# Altium footprint library PcbLib1.PcbLib: 56 footprints (part 4 of 4)
Each footprint in its own frame and in the unit in brackets; x right, y up, seen from the top. Pads: shape width x height; smd on the part's side, far side on the other; paste and mask are expansions set on the pad; w line width, h text height; cw(c..) or ccw(c..) is an arc to the next point about the centre after c.
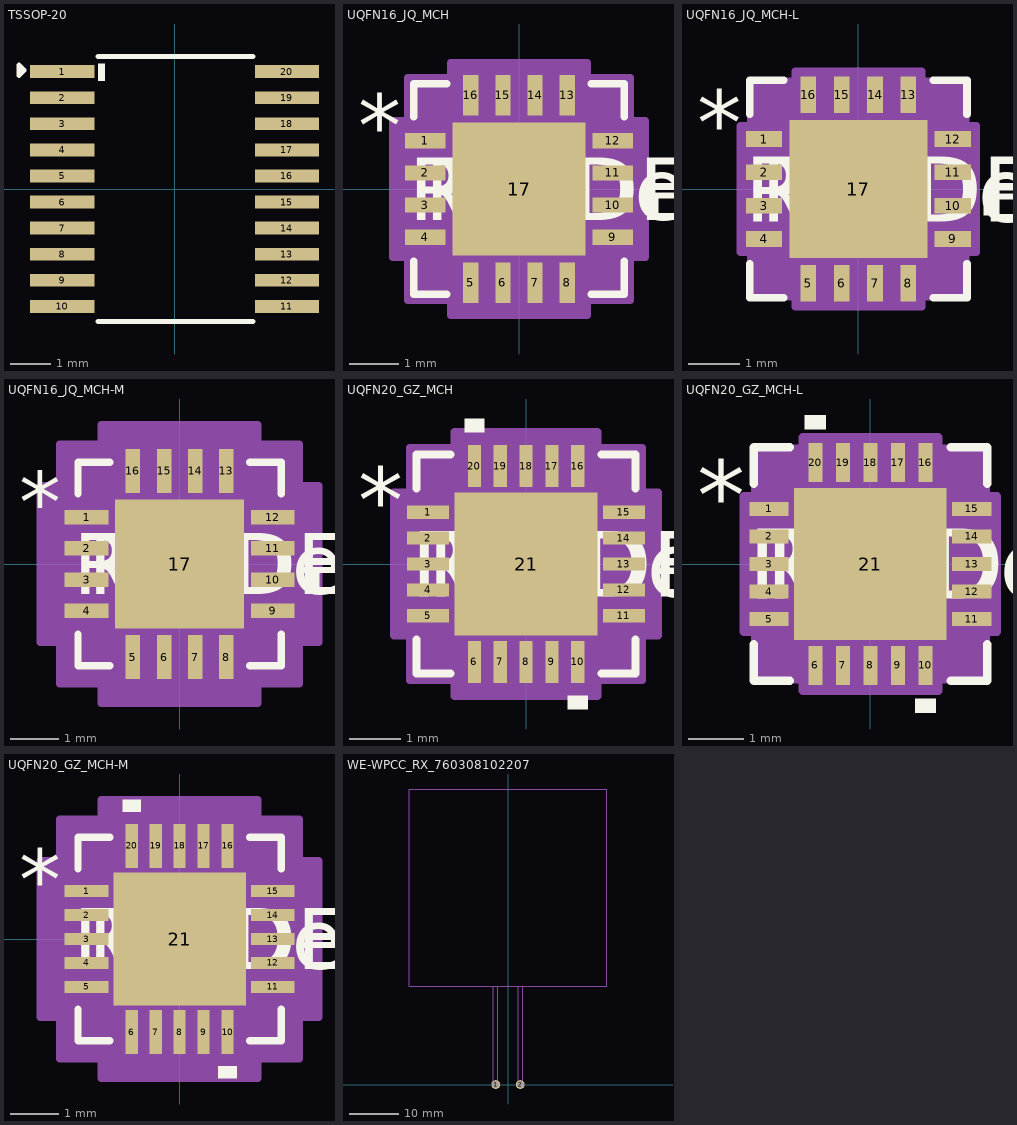
[diagram p3: the footprints below, top view; thin cyan lines are the x and y axes]

## TSSOP-20 [mm]
pads (20):
  rect 1.6x0.32 smd: 1(-2.8,2.925) 2(-2.8,2.275) 3(-2.8,1.625) 4(-2.8,0.975) 5(-2.8,0.325) 6(-2.8,-0.325) 7(-2.8,-0.975) 8(-2.8,-1.625) 9(-2.8,-2.275) 10(-2.8,-2.925) 11(2.8,-2.925) 12(2.8,-2.275) 13(2.8,-1.625) 14(2.8,-0.975) 15(2.8,-0.325) 16(2.8,0.325) 17(2.8,0.975) 18(2.8,1.625) 19(2.8,2.275) 20(2.8,2.925)
Top Overlay:
  rectangle: -1.907,2.692 -1.729,3.124
  lines w0.127: -1.907,-3.302 1.954,-3.302 ; -1.907,3.302 1.954,3.302 ; -3.875,2.832 -3.875,3.086 -3.748,2.959 -3.875,2.832
3D body "TXS0108EPWR.STEP": height 1.2, standoff 0, extent -3.2,-3.25 3.2,3.25

## UQFN16_JQ_MCH [mil]
pads (17):
  rect 32x12 smd paste+0 mask+0: 1(-74.5,38.39) 2(-74.5,12.8) 3(-74.5,-12.8) 4(-74.5,-38.39) 9(74.5,-38.39) 10(74.5,-12.8) 11(74.5,12.8) 12(74.5,38.39)
  rect 12x32 smd paste+0 mask+0: 5(-38.39,-74.5) 6(-12.8,-74.5) 7(12.8,-74.5) 8(38.39,-74.5) 13(38.39,74.5) 14(12.8,74.5) 15(-12.8,74.5) 16(-38.39,74.5)
  rect 106x106 smd paste-53 mask+0: 17(0,0)
Top Overlay:
  region: 100.5,-5.3 110.5,-5.3 110.5,-20.3 100.5,-20.3
  lines w6: -83.5,-57.49 -83.5,-83.5 -57.49,-83.5 ; -83.5,57.49 -83.5,83.5 -57.49,83.5 ; 57.49,-83.5 83.5,-83.5 83.5,-57.49 ; 57.49,83.5 83.5,83.5 83.5,57.49
  text "REFDES" at -87.5,-25 h50
  text "RefDes" at -75,-25 h50
  text "*" at -128,26.18 h50
Top Paste:
  region: 49.06,-3.94 3.94,-3.94 3.94,-49.06 49.06,-49.06
  region: 49.06,49.06 3.94,49.06 3.94,3.94 49.06,3.94
  region: -3.94,-3.94 -49.06,-3.94 -49.06,-49.06 -3.94,-49.06
  region: -3.94,49.06 -49.06,49.06 -49.06,3.94 -3.94,3.94
Mechanical 13:
  lines w1: -78.5,28.5 -28.5,78.5 ; -78.5,-78.5 -78.5,78.5 78.5,78.5 78.5,-78.5 -78.5,-78.5 ; -78.5,-45.39 -78.5,-31.39 -78.5,-45.39 ; -78.5,-19.8 -78.5,-5.8 -78.5,-19.8 ; -78.5,5.8 -78.5,19.8 -78.5,5.8 ; -78.5,31.39 -78.5,45.39 -78.5,31.39 ; -45.39,-78.5 -31.39,-78.5 -45.39,-78.5 ; -45.39,78.5 -31.39,78.5 -45.39,78.5 ; -19.8,-78.5 -5.8,-78.5 -19.8,-78.5 ; -19.8,78.5 -5.8,78.5 -19.8,78.5 ; 5.8,-78.5 19.8,-78.5 5.8,-78.5 ; 5.8,78.5 19.8,78.5 5.8,78.5 ; 31.39,-78.5 45.39,-78.5 31.39,-78.5 ; 31.39,78.5 45.39,78.5 31.39,78.5 ; 78.5,-45.39 78.5,-31.39 78.5,-45.39 ; 78.5,-19.8 78.5,-5.8 78.5,-19.8 ; 78.5,5.8 78.5,19.8 78.5,5.8 ; 78.5,31.39 78.5,45.39 78.5,31.39
  text "RefDes2" at -87.5,-25 h50
  text "*" at -71,26.18 h50
Mechanical 15:
  region: -54.39,-88.5 -88.5,-88.5 -88.5,-54.39 -100.5,-54.39 -100.5,54.39 -88.5,54.39 -88.5,88.5 -54.39,88.5 -54.39,100.5 54.39,100.5 54.39,88.5 88.5,88.5 88.5,54.39 100.5,54.39 100.5,-54.39 88.5,-54.39 88.5,-88.5 54.39,-88.5 54.39,-100.5 -54.39,-100.5
  lines w6: -100.5,-54.39 -100.5,54.39 -88.5,54.39 -88.5,88.5 -54.39,88.5 -54.39,100.5 54.39,100.5 54.39,88.5 88.5,88.5 88.5,54.39 100.5,54.39 100.5,-54.39 88.5,-54.39 88.5,-88.5 54.39,-88.5 54.39,-100.5 -54.39,-100.5 -54.39,-88.5 -88.5,-88.5 -88.5,-54.39 -100.5,-54.39
3D body "UQFN16_JQ_MCH.step": height 22.09, standoff 0, extent -78.5,-78.5 78.5,78.5

## UQFN16_JQ_MCH-L [mil]
pads (17):
  rect 28x12 smd paste+0 mask+0: 1(-72.5,38.39) 2(-72.5,12.8) 3(-72.5,-12.8) 4(-72.5,-38.39) 9(72.5,-38.39) 10(72.5,-12.8) 11(72.5,12.8) 12(72.5,38.39)
  rect 12x28 smd paste+0 mask+0: 5(-38.39,-72.5) 6(-12.8,-72.5) 7(12.8,-72.5) 8(38.39,-72.5) 13(38.39,72.5) 14(12.8,72.5) 15(-12.8,72.5) 16(-38.39,72.5)
  rect 106x106 smd paste-53 mask+0: 17(0,0)
Top Overlay:
  region: 96.5,-5.3 106.5,-5.3 106.5,-20.3 96.5,-20.3
  lines w6: -83.5,-57.49 -83.5,-83.5 -57.49,-83.5 ; -83.5,57.49 -83.5,83.5 -57.49,83.5 ; 57.49,-83.5 83.5,-83.5 83.5,-57.49 ; 57.49,83.5 83.5,83.5 83.5,57.49
  text "*" at -124,26.18 h50
  text "RefDes" at -75,-25 h50
  text "REFDES" at -87.5,-25 h50
Top Paste:
  region: -3.94,49.06 -49.06,49.06 -49.06,3.94 -3.94,3.94
  region: -3.94,-3.94 -49.06,-3.94 -49.06,-49.06 -3.94,-49.06
  region: 49.06,49.06 3.94,49.06 3.94,3.94 49.06,3.94
  region: 49.06,-3.94 3.94,-3.94 3.94,-49.06 49.06,-49.06
Mechanical 13:
  lines w1: -78.5,28.5 -28.5,78.5 ; -78.5,-78.5 78.5,-78.5 78.5,78.5 -78.5,78.5 -78.5,-78.5 ; -78.5,-45.39 -78.5,-31.39 -78.5,-45.39 ; -78.5,-19.8 -78.5,-5.8 -78.5,-19.8 ; -78.5,5.8 -78.5,19.8 -78.5,5.8 ; -78.5,31.39 -78.5,45.39 -78.5,31.39 ; -45.39,-78.5 -31.39,-78.5 -45.39,-78.5 ; -45.39,78.5 -31.39,78.5 -45.39,78.5 ; -19.8,-78.5 -5.8,-78.5 -19.8,-78.5 ; -19.8,78.5 -5.8,78.5 -19.8,78.5 ; 5.8,-78.5 19.8,-78.5 5.8,-78.5 ; 5.8,78.5 19.8,78.5 5.8,78.5 ; 31.39,-78.5 45.39,-78.5 31.39,-78.5 ; 31.39,78.5 45.39,78.5 31.39,78.5 ; 78.5,-45.39 78.5,-31.39 78.5,-45.39 ; 78.5,-19.8 78.5,-5.8 78.5,-19.8 ; 78.5,5.8 78.5,19.8 78.5,5.8 ; 78.5,31.39 78.5,45.39 78.5,31.39
  text "*" at -71,26.18 h50
  text "RefDes2" at -87.5,-25 h50
Mechanical 15:
  region: -48.39,-82.5 -82.5,-82.5 -82.5,-48.39 -90.5,-48.39 -90.5,48.39 -82.5,48.39 -82.5,82.5 -48.39,82.5 -48.39,90.5 48.39,90.5 48.39,82.5 82.5,82.5 82.5,48.39 90.5,48.39 90.5,-48.39 82.5,-48.39 82.5,-82.5 48.39,-82.5 48.39,-90.5 -48.39,-90.5
  lines w6: -90.5,-48.39 -82.5,-48.39 -82.5,-82.5 -48.39,-82.5 -48.39,-90.5 48.39,-90.5 48.39,-82.5 82.5,-82.5 82.5,-48.39 90.5,-48.39 90.5,48.39 82.5,48.39 82.5,82.5 48.39,82.5 48.39,90.5 -48.39,90.5 -48.39,82.5 -82.5,82.5 -82.5,48.39 -90.5,48.39 -90.5,-48.39
3D body "UQFN16_JQ_MCH.step": height 22.09, standoff 0, extent -78.5,-78.5 78.5,78.5
3D body "UQFN16_JQ_MCH.step": height 22.09, standoff 0, extent -78.5,-78.5 78.5,78.5

## UQFN16_JQ_MCH-M [mil]
pads (17):
  rect 36x12 smd paste+0 mask+0: 1(-76.5,38.39) 2(-76.5,12.8) 3(-76.5,-12.8) 4(-76.5,-38.39) 9(76.5,-38.39) 10(76.5,-12.8) 11(76.5,12.8) 12(76.5,38.39)
  rect 12x36 smd paste+0 mask+0: 5(-38.39,-76.5) 6(-12.8,-76.5) 7(12.8,-76.5) 8(38.39,-76.5) 13(38.39,76.5) 14(12.8,76.5) 15(-12.8,76.5) 16(-38.39,76.5)
  rect 106x106 smd paste-53 mask+0: 17(0,0)
Top Overlay:
  region: 104.5,-5.3 114.5,-5.3 114.5,-20.3 104.5,-20.3
  lines w6: -83.5,-57.49 -83.5,-83.5 -57.49,-83.5 ; -83.5,57.49 -83.5,83.5 -57.49,83.5 ; 57.49,-83.5 83.5,-83.5 83.5,-57.49 ; 57.49,83.5 83.5,83.5 83.5,57.49
  text "*" at -132,26.18 h50
  text "RefDes" at -75,-25 h50
  text "REFDES" at -87.5,-25 h50
Top Paste:
  region: -3.94,49.06 -49.06,49.06 -49.06,3.94 -3.94,3.94
  region: -3.94,-3.94 -49.06,-3.94 -49.06,-49.06 -3.94,-49.06
  region: 49.06,49.06 3.94,49.06 3.94,3.94 49.06,3.94
  region: 49.06,-3.94 3.94,-3.94 3.94,-49.06 49.06,-49.06
Mechanical 13:
  lines w1: -78.5,28.5 -28.5,78.5 ; -78.5,-78.5 78.5,-78.5 78.5,78.5 -78.5,78.5 -78.5,-78.5 ; -78.5,-45.39 -78.5,-31.39 -78.5,-45.39 ; -78.5,-19.8 -78.5,-5.8 -78.5,-19.8 ; -78.5,5.8 -78.5,19.8 -78.5,5.8 ; -78.5,31.39 -78.5,45.39 -78.5,31.39 ; -45.39,-78.5 -31.39,-78.5 -45.39,-78.5 ; -45.39,78.5 -31.39,78.5 -45.39,78.5 ; -19.8,-78.5 -5.8,-78.5 -19.8,-78.5 ; -19.8,78.5 -5.8,78.5 -19.8,78.5 ; 5.8,-78.5 19.8,-78.5 5.8,-78.5 ; 5.8,78.5 19.8,78.5 5.8,78.5 ; 31.39,-78.5 45.39,-78.5 31.39,-78.5 ; 31.39,78.5 45.39,78.5 31.39,78.5 ; 78.5,-45.39 78.5,-31.39 78.5,-45.39 ; 78.5,-19.8 78.5,-5.8 78.5,-19.8 ; 78.5,5.8 78.5,19.8 78.5,5.8 ; 78.5,31.39 78.5,45.39 78.5,31.39
  text "*" at -71,26.18 h50
  text "RefDes2" at -87.5,-25 h50
Mechanical 15:
  region: -64.39,-98.5 -98.5,-98.5 -98.5,-64.39 -114.5,-64.39 -114.5,64.39 -98.5,64.39 -98.5,98.5 -64.39,98.5 -64.39,114.5 64.39,114.5 64.39,98.5 98.5,98.5 98.5,64.39 114.5,64.39 114.5,-64.39 98.5,-64.39 98.5,-98.5 64.39,-98.5 64.39,-114.5 -64.39,-114.5
  lines w6: -114.5,-64.39 -98.5,-64.39 -98.5,-98.5 -64.39,-98.5 -64.39,-114.5 64.39,-114.5 64.39,-98.5 98.5,-98.5 98.5,-64.39 114.5,-64.39 114.5,64.39 98.5,64.39 98.5,98.5 64.39,98.5 64.39,114.5 -64.39,114.5 -64.39,98.5 -98.5,98.5 -98.5,64.39 -114.5,64.39 -114.5,-64.39
3D body "UQFN16_JQ_MCH.step": height 22.09, standoff 0, extent -78.5,-78.5 78.5,78.5

## UQFN20_GZ_MCH [mil]
pads (21):
  rect 32x10 smd paste+0 mask+0: 1(-74.5,39.37) 2(-74.5,19.68) 3(-74.5,0) 4(-74.5,-19.68) 5(-74.5,-39.37) 11(74.5,-39.37) 12(74.5,-19.68) 13(74.5,0) 14(74.5,19.68) 15(74.5,39.37)
  rect 10x32 smd paste+0 mask+0: 6(-39.37,-74.5) 7(-19.68,-74.5) 8(0,-74.5) 9(19.68,-74.5) 10(39.37,-74.5) 16(39.37,74.5) 17(19.68,74.5) 18(0,74.5) 19(-19.68,74.5) 20(-39.37,74.5)
  rect 109x109 smd paste-54.5 mask+0: 21(0,0)
Top Overlay:
  region: -31.87,100.5 -46.87,100.5 -46.87,110.5 -31.87,110.5
  region: 46.87,-100.5 31.87,-100.5 31.87,-110.5 46.87,-110.5
  lines w6: -83.5,-57.47 -83.5,-83.5 -57.47,-83.5 ; -83.5,57.47 -83.5,83.5 -57.47,83.5 ; 57.47,-83.5 83.5,-83.5 83.5,-57.47 ; 57.47,83.5 83.5,83.5 83.5,57.47
  text "REFDES" at -87.5,-25 h50
  text "RefDes" at -75,-25 h50
  text "*" at -128,24.21 h50
Top Paste:
  region: 50.56,-3.94 3.94,-3.94 3.94,-50.56 50.56,-50.56
  region: 50.56,50.56 3.94,50.56 3.94,3.94 50.56,3.94
  region: -3.94,-3.94 -50.56,-3.94 -50.56,-50.56 -3.94,-50.56
  region: -3.94,50.56 -50.56,50.56 -50.56,3.94 -3.94,3.94
Mechanical 13:
  lines w1: -78.5,28.5 -28.5,78.5 ; -78.5,-78.5 -78.5,78.5 78.5,78.5 78.5,-78.5 -78.5,-78.5 ; -78.5,-45.37 -78.5,-33.37 -78.5,-45.37 ; -78.5,-25.68 -78.5,-13.69 -78.5,-25.68 ; -78.5,-6 -78.5,6 -78.5,-6 ; -78.5,13.69 -78.5,25.68 -78.5,13.69 ; -78.5,33.37 -78.5,45.37 -78.5,33.37 ; -45.37,-78.5 -33.37,-78.5 -45.37,-78.5 ; -45.37,78.5 -33.37,78.5 -45.37,78.5 ; -25.68,-78.5 -13.69,-78.5 -25.68,-78.5 ; -25.68,78.5 -13.69,78.5 -25.68,78.5 ; -6,-78.5 6,-78.5 -6,-78.5 ; -6,78.5 6,78.5 -6,78.5 ; 13.69,-78.5 25.68,-78.5 13.69,-78.5 ; 13.69,78.5 25.68,78.5 13.69,78.5 ; 33.37,-78.5 45.37,-78.5 33.37,-78.5 ; 33.37,78.5 45.37,78.5 33.37,78.5 ; 78.5,-45.37 78.5,-33.37 78.5,-45.37 ; 78.5,-25.68 78.5,-13.69 78.5,-25.68 ; 78.5,-6 78.5,6 78.5,-6 ; 78.5,13.69 78.5,25.68 78.5,13.69 ; 78.5,33.37 78.5,45.37 78.5,33.37
  text "RefDes2" at -87.5,-25 h50
  text "*" at -71,24.21 h50
Mechanical 15:
  region: -54.37,-88.5 -88.5,-88.5 -88.5,-54.37 -100.5,-54.37 -100.5,54.37 -88.5,54.37 -88.5,88.5 -54.37,88.5 -54.37,100.5 54.37,100.5 54.37,88.5 88.5,88.5 88.5,54.37 100.5,54.37 100.5,-54.37 88.5,-54.37 88.5,-88.5 54.37,-88.5 54.37,-100.5 -54.37,-100.5
  lines w6: -100.5,-54.37 -100.5,54.37 -88.5,54.37 -88.5,88.5 -54.37,88.5 -54.37,100.5 54.37,100.5 54.37,88.5 88.5,88.5 88.5,54.37 100.5,54.37 100.5,-54.37 88.5,-54.37 88.5,-88.5 54.37,-88.5 54.37,-100.5 -54.37,-100.5 -54.37,-88.5 -88.5,-88.5 -88.5,-54.37 -100.5,-54.37
3D body "UQFN20_GZ_MCH.step": height 22.09, standoff 0, extent -78.5,-78.5 78.5,78.5

## UQFN20_GZ_MCH-L [mil]
pads (21):
  rect 28x10 smd paste+0 mask+0: 1(-72.5,39.37) 2(-72.5,19.68) 3(-72.5,0) 4(-72.5,-19.68) 5(-72.5,-39.37) 11(72.5,-39.37) 12(72.5,-19.68) 13(72.5,0) 14(72.5,19.68) 15(72.5,39.37)
  rect 10x28 smd paste+0 mask+0: 6(-39.37,-72.5) 7(-19.68,-72.5) 8(0,-72.5) 9(19.68,-72.5) 10(39.37,-72.5) 16(39.37,72.5) 17(19.68,72.5) 18(0,72.5) 19(-19.68,72.5) 20(-39.37,72.5)
  rect 109x109 smd paste-54.5 mask+0: 21(0,0)
Top Overlay:
  region: 46.87,-96.5 31.87,-96.5 31.87,-106.5 46.87,-106.5
  region: -31.87,96.5 -46.87,96.5 -46.87,106.5 -31.87,106.5
  lines w6: -83.5,-57.47 -83.5,-83.5 -57.47,-83.5 ; -83.5,57.47 -83.5,83.5 -57.47,83.5 ; 57.47,-83.5 83.5,-83.5 83.5,-57.47 ; 57.47,83.5 83.5,83.5 83.5,57.47
  text "*" at -124,24.21 h50
  text "RefDes" at -75,-25 h50
  text "REFDES" at -87.5,-25 h50
Top Paste:
  region: -3.94,50.56 -50.56,50.56 -50.56,3.94 -3.94,3.94
  region: -3.94,-3.94 -50.56,-3.94 -50.56,-50.56 -3.94,-50.56
  region: 50.56,50.56 3.94,50.56 3.94,3.94 50.56,3.94
  region: 50.56,-3.94 3.94,-3.94 3.94,-50.56 50.56,-50.56
Mechanical 13:
  lines w1: -78.5,28.5 -28.5,78.5 ; -78.5,-78.5 78.5,-78.5 78.5,78.5 -78.5,78.5 -78.5,-78.5 ; -78.5,-45.37 -78.5,-33.37 -78.5,-45.37 ; -78.5,-25.68 -78.5,-13.69 -78.5,-25.68 ; -78.5,-6 -78.5,6 -78.5,-6 ; -78.5,13.69 -78.5,25.68 -78.5,13.69 ; -78.5,33.37 -78.5,45.37 -78.5,33.37 ; -45.37,-78.5 -33.37,-78.5 -45.37,-78.5 ; -45.37,78.5 -33.37,78.5 -45.37,78.5 ; -25.68,-78.5 -13.69,-78.5 -25.68,-78.5 ; -25.68,78.5 -13.69,78.5 -25.68,78.5 ; -6,-78.5 6,-78.5 -6,-78.5 ; -6,78.5 6,78.5 -6,78.5 ; 13.69,-78.5 25.68,-78.5 13.69,-78.5 ; 13.69,78.5 25.68,78.5 13.69,78.5 ; 33.37,-78.5 45.37,-78.5 33.37,-78.5 ; 33.37,78.5 45.37,78.5 33.37,78.5 ; 78.5,-45.37 78.5,-33.37 78.5,-45.37 ; 78.5,-25.68 78.5,-13.69 78.5,-25.68 ; 78.5,-6 78.5,6 78.5,-6 ; 78.5,13.69 78.5,25.68 78.5,13.69 ; 78.5,33.37 78.5,45.37 78.5,33.37
  text "*" at -71,24.21 h50
  text "RefDes2" at -87.5,-25 h50
Mechanical 15:
  region: -48.37,-82.5 -82.5,-82.5 -82.5,-48.37 -90.5,-48.37 -90.5,48.37 -82.5,48.37 -82.5,82.5 -48.37,82.5 -48.37,90.5 48.37,90.5 48.37,82.5 82.5,82.5 82.5,48.37 90.5,48.37 90.5,-48.37 82.5,-48.37 82.5,-82.5 48.37,-82.5 48.37,-90.5 -48.37,-90.5
  lines w6: -90.5,-48.37 -82.5,-48.37 -82.5,-82.5 -48.37,-82.5 -48.37,-90.5 48.37,-90.5 48.37,-82.5 82.5,-82.5 82.5,-48.37 90.5,-48.37 90.5,48.37 82.5,48.37 82.5,82.5 48.37,82.5 48.37,90.5 -48.37,90.5 -48.37,82.5 -82.5,82.5 -82.5,48.37 -90.5,48.37 -90.5,-48.37
3D body "UQFN20_GZ_MCH.step": height 22.09, standoff 0, extent -78.5,-78.5 78.5,78.5

## UQFN20_GZ_MCH-M [mil]
pads (21):
  rect 36x10 smd paste+0 mask+0: 1(-76.5,39.37) 2(-76.5,19.68) 3(-76.5,0) 4(-76.5,-19.68) 5(-76.5,-39.37) 11(76.5,-39.37) 12(76.5,-19.68) 13(76.5,0) 14(76.5,19.68) 15(76.5,39.37)
  rect 10x36 smd paste+0 mask+0: 6(-39.37,-76.5) 7(-19.68,-76.5) 8(0,-76.5) 9(19.68,-76.5) 10(39.37,-76.5) 16(39.37,76.5) 17(19.68,76.5) 18(0,76.5) 19(-19.68,76.5) 20(-39.37,76.5)
  rect 109x109 smd paste-54.5 mask+0: 21(0,0)
Top Overlay:
  region: -31.87,104.5 -46.87,104.5 -46.87,114.5 -31.87,114.5
  region: 46.87,-104.5 31.87,-104.5 31.87,-114.5 46.87,-114.5
  lines w6: -83.5,-57.47 -83.5,-83.5 -57.47,-83.5 ; -83.5,57.47 -83.5,83.5 -57.47,83.5 ; 57.47,-83.5 83.5,-83.5 83.5,-57.47 ; 57.47,83.5 83.5,83.5 83.5,57.47
  text "REFDES" at -87.5,-25 h50
  text "RefDes" at -75,-25 h50
  text "*" at -132,24.21 h50
Top Paste:
  region: 50.56,-3.94 3.94,-3.94 3.94,-50.56 50.56,-50.56
  region: 50.56,50.56 3.94,50.56 3.94,3.94 50.56,3.94
  region: -3.94,-3.94 -50.56,-3.94 -50.56,-50.56 -3.94,-50.56
  region: -3.94,50.56 -50.56,50.56 -50.56,3.94 -3.94,3.94
Mechanical 13:
  lines w1: -78.5,28.5 -28.5,78.5 ; -78.5,-78.5 -78.5,78.5 78.5,78.5 78.5,-78.5 -78.5,-78.5 ; -78.5,-45.37 -78.5,-33.37 -78.5,-45.37 ; -78.5,-25.68 -78.5,-13.69 -78.5,-25.68 ; -78.5,-6 -78.5,6 -78.5,-6 ; -78.5,13.69 -78.5,25.68 -78.5,13.69 ; -78.5,33.37 -78.5,45.37 -78.5,33.37 ; -45.37,-78.5 -33.37,-78.5 -45.37,-78.5 ; -45.37,78.5 -33.37,78.5 -45.37,78.5 ; -25.68,-78.5 -13.69,-78.5 -25.68,-78.5 ; -25.68,78.5 -13.69,78.5 -25.68,78.5 ; -6,-78.5 6,-78.5 -6,-78.5 ; -6,78.5 6,78.5 -6,78.5 ; 13.69,-78.5 25.68,-78.5 13.69,-78.5 ; 13.69,78.5 25.68,78.5 13.69,78.5 ; 33.37,-78.5 45.37,-78.5 33.37,-78.5 ; 33.37,78.5 45.37,78.5 33.37,78.5 ; 78.5,-45.37 78.5,-33.37 78.5,-45.37 ; 78.5,-25.68 78.5,-13.69 78.5,-25.68 ; 78.5,-6 78.5,6 78.5,-6 ; 78.5,13.69 78.5,25.68 78.5,13.69 ; 78.5,33.37 78.5,45.37 78.5,33.37
  text "RefDes2" at -87.5,-25 h50
  text "*" at -71,24.21 h50
Mechanical 15:
  region: -64.37,-98.5 -98.5,-98.5 -98.5,-64.37 -114.5,-64.37 -114.5,64.37 -98.5,64.37 -98.5,98.5 -64.37,98.5 -64.37,114.5 64.37,114.5 64.37,98.5 98.5,98.5 98.5,64.37 114.5,64.37 114.5,-64.37 98.5,-64.37 98.5,-98.5 64.37,-98.5 64.37,-114.5 -64.37,-114.5
  lines w6: -114.5,-64.37 -114.5,64.37 -98.5,64.37 -98.5,98.5 -64.37,98.5 -64.37,114.5 64.37,114.5 64.37,98.5 98.5,98.5 98.5,64.37 114.5,64.37 114.5,-64.37 98.5,-64.37 98.5,-98.5 64.37,-98.5 64.37,-114.5 -64.37,-114.5 -64.37,-98.5 -98.5,-98.5 -98.5,-64.37 -114.5,-64.37
3D body "UQFN20_GZ_MCH.step": height 22.09, standoff 0, extent -78.5,-78.5 78.5,78.5

## WE-WPCC_RX_760308102207 [mm]
pads (2):
  round 1.8 hole 1.2 mask+0.102: 1(-2.5,0) 2(2.5,0)
Mechanical 13:
  lines w0.1: -2.95,20 -2.05,20 ; -2.95,20 -20,20 -20,60 20,60 20,20 2.95,20 ; -2.95,20 -2.95,0 -2.05,0 -2.05,20 ; -2.05,20 2.05,20 ; 2.05,20 2.95,20 ; 2.05,20 2.05,0 2.95,0 2.95,20
  text "1" at -2.8,1.4 h0.81
  text "2" at 2.2,1.2 h0.81
  text "5.0mm" at -1.7,-1.9 h0.81
3D body "760308102207+%28rev1%29.stp": height 0.96, standoff -0.22, extent -20,-4.802 20,60.198